# Altium schematic symbol library Schlib1.SchLib: 4 symbols
Pins are listed as number, name and electrical type; pins without a type are passive.

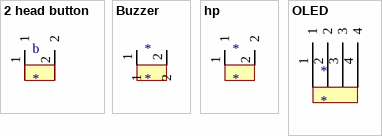
[diagram p0: symbols 2 head button to OLED]

## 2 head button
designator b
footprint 2 head button
pins: 1, 2

## Buzzer
designator *
footprint buzzer
pins: 1, 2

## hp
designator *
footprint hp
pins: 1, 2

## OLED
designator *
footprint OLED
pins: 1, 2, 3, 4